# Altium schematic symbol library basic02_capacitors.schlib: 20 symbols
Pins are listed as number, name and electrical type; pins without a type are passive.

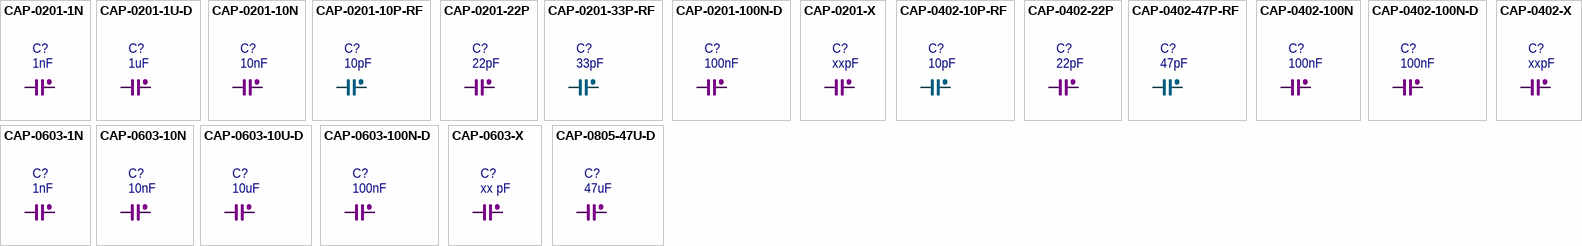
[diagram p0: symbols CAP-0201-1N to CAP-0805-47U-D]

## CAP-0201-1N
designator C?, comment 1nF
CAP, 1000pF, 5%, X7R, 25V, 0201, PbF; VendorPartNumber: GRM033R71E102JA01; LocalPartNumber: CAP-0201-1N; Vendor: Murata; EngineerName: Shyu Lee (Xu Li); EngineerEmail: shyu.lee@gmail.com; shyu.lee@ettus.com; Value: 1nF; Publisher: MiniLab; Version: 1.0; VersionDate: 01-10-2014
footprint 0201-CAP (Capacitor, 0201, General)
simulation model CAP (Ideal Capacitor)
pins: 1, 2

## CAP-0201-1U-D
designator C?, comment 1uF
CAP, 1uF, 20%, X5R, 6.3V, 0201, PbF; VendorPartNumber: GRM033R60J105MEA2; LocalPartNumber: CAP-0201-1U-D; Vendor: Murata; EngineerName: Shyu Lee (Xu Li); EngineerEmail: shyu.lee@gmail.com; shyu.lee@ettus.com; Value: 1uF; Publisher: MiniLab; Version: 1.0; VersionDate: 01-10-2014
footprint 0201-CAP (Capacitor, 0201, General)
simulation model CAP (Ideal Capacitor)
pins: 1, 2

## CAP-0201-10N
designator C?, comment 10nF
CAP, 0.01uF, 5%, X7R, 6.3V, 0201, PbF; VendorPartNumber: GRM033R70J103JA01; LocalPartNumber: CAP-0201-10N; Vendor: Murata; EngineerName: Shyu Lee (Xu Li); EngineerEmail: shyu.lee@gmail.com; shyu.lee@ettus.com; Value: 10nF; Publisher: MiniLab; Version: 1.0; VersionDate: 01-10-2014
footprint 0201-CAP (Capacitor, 0201, General)
simulation model CAP (Ideal Capacitor)
pins: 1, 2

## CAP-0201-10P-RF
designator C?, comment 10pF
CAP, 10pF, 2%, HiQ, C0G, 25V, 0201, PbF; VendorPartNumber: GJM0335C1E100GB01; LocalPartNumber: CAP-0201-10P-RF; Vendor: Murata; EngineerName: Shyu Lee (Xu Li); EngineerEmail: shyu.lee@gmail.com; shyu.lee@ettus.com; Value: 10pF; Publisher: MiniLab; Version: 1.0; VersionDate: 01-10-2014
footprint 0201-CAP-RF (Capacitor, 0201, High Frequency)
simulation model CAP (Ideal Capacitor)
pins: 1, 2

## CAP-0201-22P
designator C?, comment 22pF
CAP, 22pF, 5%, C0G, 50V, 0201, PbF; VendorPartNumber: GRM0335C1H220JA01; LocalPartNumber: CAP-0201-22P; Vendor: Murata; EngineerName: Shyu Lee (Xu Li); EngineerEmail: shyu.lee@gmail.com; shyu.lee@ettus.com; Value: 22pF; Publisher: MiniLab; Version: 1.0; VersionDate: 01-10-2014
footprint 0201-CAP-RF (Capacitor, 0201, High Frequency)
simulation model CAP (Ideal Capacitor)
pins: 1, 2

## CAP-0201-33P-RF
designator C?, comment 33pF
CAP, 33pF, 2%, HiQ, C0G, 6.3V, 0201, PbF; VendorPartNumber: GJM0335C0J330GB01; LocalPartNumber: CAP-0201-33P-RF; Vendor: Murata; EngineerName: Shyu Lee (Xu Li); EngineerEmail: shyu.lee@gmail.com; shyu.lee@ettus.com; Value: 33pF; Publisher: MiniLab; Version: 1.0; VersionDate: 01-10-2014
footprint 0201-CAP-RF (Capacitor, 0201, High Frequency)
simulation model CAP (Ideal Capacitor)
pins: 1, 2

## CAP-0201-100N-D
designator C?, comment 100nF
CAP, 0.1uF, 20%, X5R, 25V, 0201, PbF; VendorPartNumber: GRM033R61E104ME14; LocalPartNumber: CAP-0201-100N-D; Vendor: Murata; EngineerName: Shyu Lee (Xu Li); EngineerEmail: shyu.lee@gmail.com; shyu.lee@ettus.com; Value: 100nF; Publisher: MiniLab; Version: 1.0; VersionDate: 01-10-2014
footprint 0201-CAP (Capacitor, 0201, General)
simulation model CAP (Ideal Capacitor)
pins: 1, 2

## CAP-0201-X
designator C?, comment xxpF
CAP, xxpF, x%, CXG, xxV, 0201, PbF; VendorPartNumber: GRMxx; LocalPartNumber: CAP-0201-X; Vendor: Murata; EngineerName: Shyu Lee (Xu Li); EngineerEmail: shyu.lee@gmail.com; shyu.lee@ettus.com; Value: xxpF; Publisher: MiniLab; Version: 1.0; VersionDate: 01-10-2014
footprint 0201-CAP (Capacitor, 0201, General)
simulation model CAP (Ideal Capacitor)
pins: 1, 2

## CAP-0402-10P-RF
designator C?, comment 10pF
CAP, 10pF, 1%, HiQ, C0G, 50V, 0402, PbF; VendorPartNumber: GJM1555C1H100FB01; LocalPartNumber: CAP-0402-10P-RF; Vendor: Murata; EngineerName: Shyu Lee (Xu Li); EngineerEmail: shyu.lee@gmail.com; shyu.lee@ettus.com; Value: 10pF; Publisher: MiniLab; Version: 1.0; VersionDate: 01-10-2014
footprint 0402-CAP-RF (Capacitor, 0402, High Frequency)
simulation model CAP (Ideal Capacitor)
pins: 1, 2

## CAP-0402-22P
designator C?, comment 22pF
CAP, 22pF, 5%, C0G, 50V, 0402, PbF; VendorPartNumber: GRM1555C1H220JA01; LocalPartNumber: CAP-0402-22P; Vendor: Murata; EngineerName: Shyu Lee (Xu Li); EngineerEmail: shyu.lee@gmail.com; shyu.lee@ettus.com; Value: 22pF; Publisher: MiniLab; Version: 1.0; VersionDate: 01-10-2014
footprint 0402-CAP-RF (Capacitor, 0402, High Frequency)
simulation model CAP (Ideal Capacitor)
pins: 1, 2

## CAP-0402-47P-RF
designator C?, comment 47pF
CAP, 47pF, 1%, HiQ, C0G, 50V, 0402, PbF; VendorPartNumber: GJM1555C1H470FB01; LocalPartNumber: CAP-0402-47P-RF; Vendor: Murata; EngineerName: Shyu Lee (Xu Li); EngineerEmail: shyu.lee@gmail.com; shyu.lee@ettus.com; Value: 47pF; Publisher: MiniLab; Version: 1.0; VersionDate: 01-10-2014
footprint 0402-CAP-RF (Capacitor, 0402, High Frequency)
simulation model CAP (Ideal Capacitor)
pins: 1, 2

## CAP-0402-100N
designator C?, comment 100nF
CAP, 0.1uF, 5%, X7R, 16V, 0402, PbF; VendorPartNumber: GRM155R71C104JA88; LocalPartNumber: CAP-0402-100N; Vendor: Murata; EngineerName: Shyu Lee (Xu Li); EngineerEmail: shyu.lee@gmail.com; shyu.lee@ettus.com; Value: 100nF; Publisher: MiniLab; Version: 1.0; VersionDate: 01-10-2014
footprint 0402-CAP (Capacitor, 0402, General)
simulation model CAP (Ideal Capacitor)
pins: 1, 2

## CAP-0402-100N-D
designator C?, comment 100nF
CAP, 0.1uF, 20%, X7R, 50V, 0402, PbF; VendorPartNumber: GRM155R71H104ME14; LocalPartNumber: CAP-0402-100N-D; Vendor: Murata; EngineerName: Shyu Lee (Xu Li); EngineerEmail: shyu.lee@gmail.com; shyu.lee@ettus.com; Value: 100nF; Publisher: MiniLab; Version: 1.0; VersionDate: 01-10-2014
footprint 0402-CAP (Capacitor, 0402, General)
simulation model CAP (Ideal Capacitor)
pins: 1, 2

## CAP-0402-X
designator C?, comment xxpF
CAP, xxpF, x%, CxG, xxV, 0402, PbF; VendorPartNumber: GRMxx; LocalPartNumber: CAP-0402-X; Vendor: Murata; EngineerName: Shyu Lee (Xu Li); EngineerEmail: shyu.lee@gmail.com; shyu.lee@ettus.com; Value: xxpF; Publisher: MiniLab; Version: 1.0; VersionDate: 01-10-2014
footprint 0402-CAP (Capacitor, 0402, General)
simulation model CAP (Ideal Capacitor)
pins: 1, 2

## CAP-0603-1N
designator C?, comment 1nF
CAP, 1000pF, 5%, C0G, 100V, 0603, PbF; VendorPartNumber: GRM1885C2A102JA01; LocalPartNumber: CAP-0603-1N; Vendor: Murata; EngineerName: Shyu Lee (Xu Li); EngineerEmail: shyu.lee@gmail.com; shyu.lee@ettus.com; Value: 1nF; Publisher: MiniLab; Version: 1.0; VersionDate: 01-10-2014
footprint 0603-CAP-RF (Capacitor, 0603, High Frequency)
simulation model CAP (Ideal Capacitor)
pins: 1, 2

## CAP-0603-10N
designator C?, comment 10nF
CAP, 0.01uF, 5%, C0G, 50V, 0603, PbF; VendorPartNumber: GRM1885C1H103JA01; LocalPartNumber: CAP-0603-10N; Vendor: Murata; EngineerName: Shyu Lee (Xu Li); EngineerEmail: shyu.lee@gmail.com; shyu.lee@ettus.com; Value: 10nF; Publisher: MiniLab; Version: 1.0; VersionDate: 01-10-2014
footprint 0603-CAP-RF (Capacitor, 0603, High Frequency)
simulation model CAP (Ideal Capacitor)
pins: 1, 2

## CAP-0603-10U-D
designator C?, comment 10uF
CAP, 10uF, 20%, X5R, 25V, 0603, PbF; VendorPartNumber: GRM188R61E106MA73; LocalPartNumber: CAP-0603-10U-D; Vendor: Murata; EngineerName: Shyu Lee (Xu Li); EngineerEmail: shyu.lee@gmail.com; shyu.lee@ettus.com; Value: 10uF; Publisher: MiniLab; Version: 1.0; VersionDate: 01-10-2014
footprint 0603-CAP (Capacitor, 0603, General)
simulation model CAP (Ideal Capacitor)
pins: 1, 2

## CAP-0603-100N-D
designator C?, comment 100nF
CAP, 0.1uF, 10%, X7R, 50V, 0603, PbF; VendorPartNumber: GRM188R71H104KA93; LocalPartNumber: CAP-0603-100N-D; Vendor: Murata; EngineerName: Shyu Lee (Xu Li); EngineerEmail: shyu.lee@gmail.com; shyu.lee@ettus.com; Value: 100nF; Publisher: MiniLab; Version: 1.0; VersionDate: 01-10-2014
footprint 0603-CAP (Capacitor, 0603, General)
simulation model CAP (Ideal Capacitor)
pins: 1, 2

## CAP-0603-X
designator C?, comment xx pF
CAP, xxpF, x%, CxG, xxV, 0603, PbF; VendorPartNumber: GRMxxx; LocalPartNumber: CAP-0603-X; Vendor: Murata; EngineerName: Shyu Lee (Xu Li); EngineerEmail: shyu.lee@gmail.com; shyu.lee@ettus.com; Value: xx pF; Publisher: MiniLab; Version: 1.0; VersionDate: 01-10-2014
footprint 0603-CAP (Capacitor, 0603, General)
simulation model CAP (Ideal Capacitor)
pins: 1, 2

## CAP-0805-47U-D
designator C?, comment 47uF
CAP, 47uF, 20%, X5R, 6.3V, 0805, PbF; VendorPartNumber: GRM21BR60J476ME11; LocalPartNumber: CAP-0805-47U-D; Vendor: Murata; EngineerName: Shyu Lee (Xu Li); EngineerEmail: shyu.lee@gmail.com; shyu.lee@ettus.com; Value: 47uF; Publisher: MiniLab; Version: 1.0; VersionDate: 01-10-2014
footprint 0805-CAP-HC (Capacitor, 0805, High Capacity)
simulation model CAP (Ideal Capacitor)
pins: 1, 2